# Altium footprint library CSPSBULC3V3LBTP.PcbLib: 1 footprints
Each footprint in its own frame and in the unit in brackets; x right, y up, seen from the top. Pads: shape width x height; smd on the part's side, far side on the other; paste and mask are expansions set on the pad; w line width, h text height; cw(c..) or ccw(c..) is an arc to the next point about the centre after c.
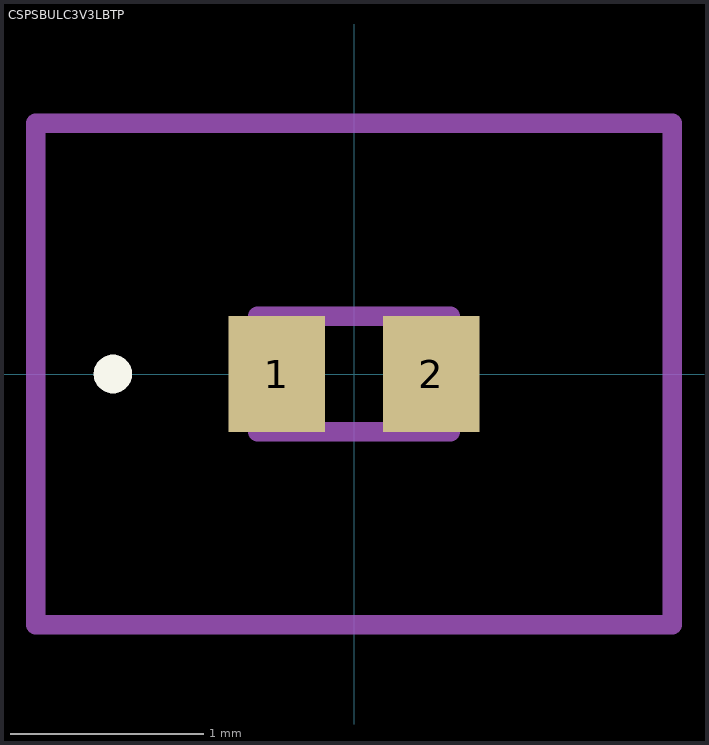
[diagram p0: the footprint, top view; thin cyan lines are the x and y axes]

## CSPSBULC3V3LBTP [mm]
pads (2):
  rect 0.5x0.6 smd: 1(-0.4,0) 2(0.4,0)
Top Overlay:
  lines w0.1: -1.3,0 -1.3,0 ; -1.3,0 ccw(c-1.25,0) -1.2,0 ; -1.3,0 cw(c-1.25,0) -1.2,0 ; -1.2,0 -1.2,0
Mechanical 15:
  lines w0.1: -0.5,-0.3 0.5,-0.3 0.5,0.3 -0.5,0.3 -0.5,-0.3
Mechanical 20:
  lines w0.1: -1.65,-1.3 1.65,-1.3 1.65,1.3 -1.65,1.3 -1.65,-1.3